# EAGLE library part ADAU1701JSTZ-RL (library DSPs)
IC AUDIO PROC 2ADC/4DAC 48-LQFP Manufacturer's datasheet <https://www.analog.com/media/en/technical-documentation/data-sheets/ADAU1701.pdf>
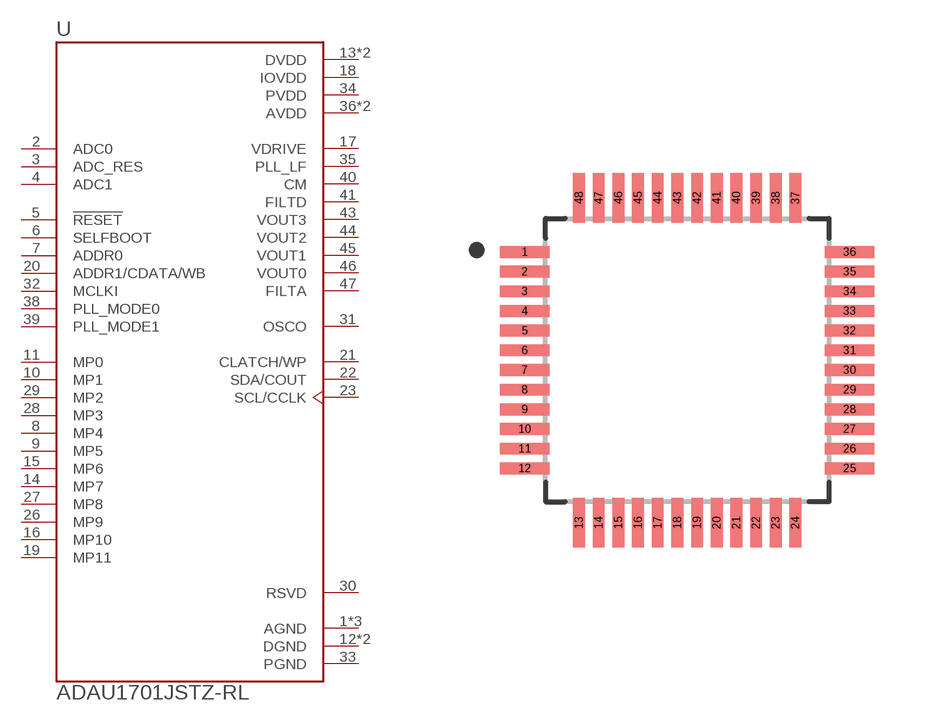
[diagram p1: symbol with the pads of LQFP-48; footprint LQFP-48]

Designator prefix U

## ADAU1701JSTZ-RL (CREATED_BY: PCBLayout.com; DIGIKEY_PN: ADAU1701JSTZ-RLTR-ND; MANUFACTURER: Analog Devices Inc.; MPN: ADAU1701JSTZ-RL; PACKAGE: LQFP-48)  [LQFP-48]
1  AGND  pwr
2  ADC0  in
3  ADC_RES  in
4  ADC1  in
5  !RESET  in
6  SELFBOOT  in
7  ADDR0  in
8  MP4
9  MP5
10  MP1
11  MP0
12  DGND  pwr
13  DVDD  pwr
14  MP7
15  MP6
16  MP10
17  VDRIVE  out
18  IOVDD  pwr
19  MP11
20  ADDR1/CDATA/WB  in
21  CLATCH/WP
22  SDA/COUT
23  SCL/CCLK
24  DVDD  pwr
25  DGND  pwr
26  MP9
27  MP8
28  MP3
29  MP2
30  RSVD  pas
31  OSCO  out
32  MCLKI  in
33  PGND  pwr
34  PVDD  pwr
35  PLL_LF  out
36  AVDD  pwr
37  AGND  pwr
38  PLL_MODE0  in
39  PLL_MODE1  in
40  CM  out
41  FILTD  out
42  AGND  pwr
43  VOUT3  out
44  VOUT2  out
45  VOUT1  out
46  VOUT0  out
47  FILTA  out
48  AVDD  pwr

## Footprint LQFP-48 (pad centres in mm)
smd 1.26 x 0.3: 1 -4.13,2.75; 2 -4.13,2.25; 3 -4.13,1.75; 4 -4.13,1.25; 5 -4.13,0.75; 6 -4.13,0.25; 7 -4.13,-0.25; 8 -4.13,-0.75; 9 -4.13,-1.25; 10 -4.13,-1.75; 11 -4.13,-2.25; 12 -4.13,-2.75; 25 4.13,-2.75; 26 4.13,-2.25; 27 4.13,-1.75; 28 4.13,-1.25; 29 4.13,-0.75; 30 4.13,-0.25; 31 4.13,0.25; 32 4.13,0.75; 33 4.13,1.25; 34 4.13,1.75; 35 4.13,2.25; 36 4.13,2.75
smd 0.3 x 1.26: 13 -2.75,-4.13; 14 -2.25,-4.13; 15 -1.75,-4.13; 16 -1.25,-4.13; 17 -0.75,-4.13; 18 -0.25,-4.13; 19 0.25,-4.13; 20 0.75,-4.13; 21 1.25,-4.13; 22 1.75,-4.13; 23 2.25,-4.13; 24 2.75,-4.13; 37 2.75,4.13; 38 2.25,4.13; 39 1.75,4.13; 40 1.25,4.13; 41 0.75,4.13; 42 0.25,4.13; 43 -0.25,4.13; 44 -0.75,4.13; 45 -1.25,4.13; 46 -1.75,4.13; 47 -2.25,4.13; 48 -2.75,4.13